# Altium schematic symbol library TCR2EF50,LM(CT.SchLib: 1 symbol
Pins are listed as number, name and electrical type; pins without a type are passive.

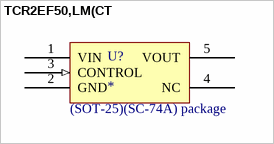
[diagram p0: symbol TCR2EF50,LM(CT]

## TCR2EF50,LM(CT
designator U?
footprint SOT95P275X130-5N (SOT23, 5-Leads, Body 2.90x2.75mm, Pitch 0.95mm, IPC Medium Density)
pins: 1 VIN (power), 2 GND (power), 3 CONTROL (in), 4 NC, 5 VOUT (power)
text: (SOT-25)(SC-74A) package